# Altium schematic symbol library Res_Panasonic_ERJ-2GEJ104X_eec.SchLib: 1 symbol
Pins are listed as number, name and electrical type; pins without a type are passive.

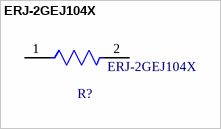
[diagram p0: symbol ERJ-2GEJ104X]

## ERJ-2GEJ104X
designator R?  (value not drawn)
pins: 1, 2